# EAGLE library part ATTINY88-AU (library Attiny88)
IC, 8BIT MCU, AVR Tiny, 12MHZ, TQFP-32
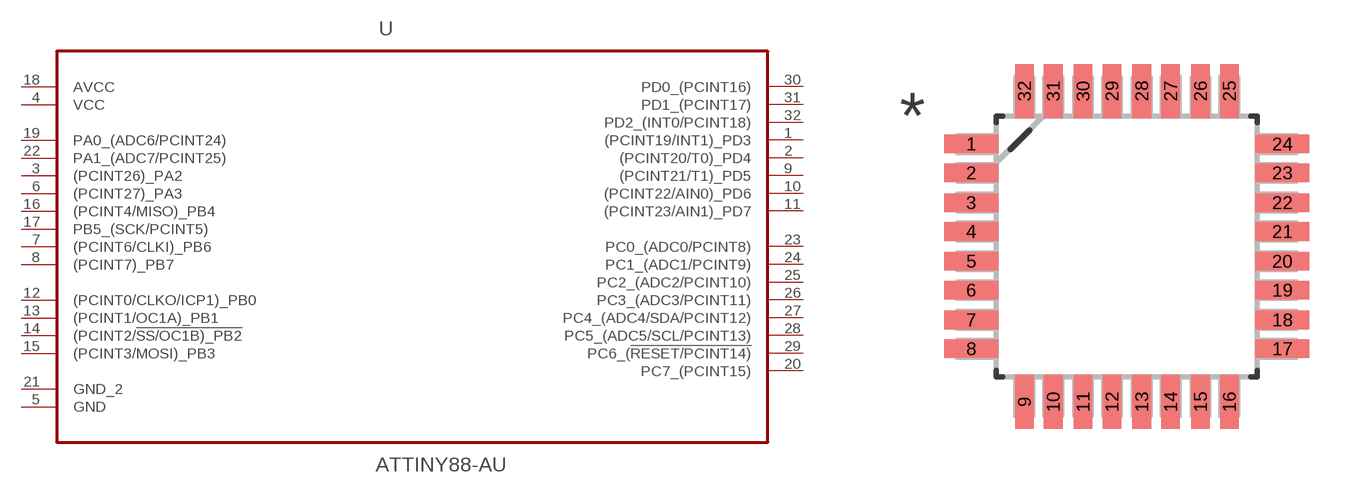
[diagram p0: symbol with the pads of QFP80P900X900X120-32N; footprint QFP80P900X900X120-32N]

Designator prefix U

## ATTINY88-AU (MPN: ATTINY88-AU; OC_FARNELL: 1704570; OC_NEWARK: 68T3851; PACKAGE: TQFP-32; SUPPLIER: ATMEL)  [QFP80P900X900X120-32N]
1  (PCINT19/INT1)_PD3
2  (PCINT20/T0)_PD4
3  (PCINT26)_PA2
4  VCC  pwr
5  GND  pas
6  (PCINT27)_PA3
7  (PCINT6/CLKI)_PB6
8  (PCINT7)_PB7
9  (PCINT21/T1)_PD5
10  (PCINT22/AIN0)_PD6
11  (PCINT23/AIN1)_PD7
12  (PCINT0/CLKO/ICP1)_PB0
13  (PCINT1/OC1A)_PB1
14  (PCINT2/!SS/OC1B)_PB2
15  (PCINT3/MOSI)_PB3
16  (PCINT4/MISO)_PB4
17  PB5_(SCK/PCINT5)
18  AVCC  pwr
19  PA0_(ADC6/PCINT24)
20  PC7_(PCINT15)
21  GND_2  pas
22  PA1_(ADC7/PCINT25)
23  PC0_(ADC0/PCINT8)
24  PC1_(ADC1/PCINT9)
25  PC2_(ADC2/PCINT10)
26  PC3_(ADC3/PCINT11)
27  PC4_(ADC4/SDA/PCINT12)
28  PC5_(ADC5/SCL/PCINT13)
29  PC6_(!RESET/PCINT14)
30  PD0_(PCINT16)
31  PD1_(PCINT17)
32  PD2_(INT0/PCINT18)

## Footprint QFP80P900X900X120-32N (pad centres in mm)
smd 1.473 x 0.508: 1 -4.242,2.794; 2 -4.242,2.007; 3 -4.242,1.194; 4 -4.242,0.406; 5 -4.242,-0.406; 6 -4.242,-1.194; 7 -4.242,-2.007; 8 -4.242,-2.794; 17 4.242,-2.794; 18 4.242,-2.007; 19 4.242,-1.194; 20 4.242,-0.406; 21 4.242,0.406; 22 4.242,1.194; 23 4.242,2.007; 24 4.242,2.794
smd 0.508 x 1.473: 9 -2.794,-4.242; 10 -2.007,-4.242; 11 -1.194,-4.242; 12 -0.406,-4.242; 13 0.406,-4.242; 14 1.194,-4.242; 15 2.007,-4.242; 16 2.794,-4.242; 25 2.794,4.242; 26 2.007,4.242; 27 1.194,4.242; 28 0.406,4.242; 29 -0.406,4.242; 30 -1.194,4.242; 31 -2.007,4.242; 32 -2.794,4.242